# EAGLE library part 74LVC8T245PW (library KVB-ICs)
Voltage Level Translator Bidirectiona 1 Circuit 8 Channel 420Mbps 24-TSSOP
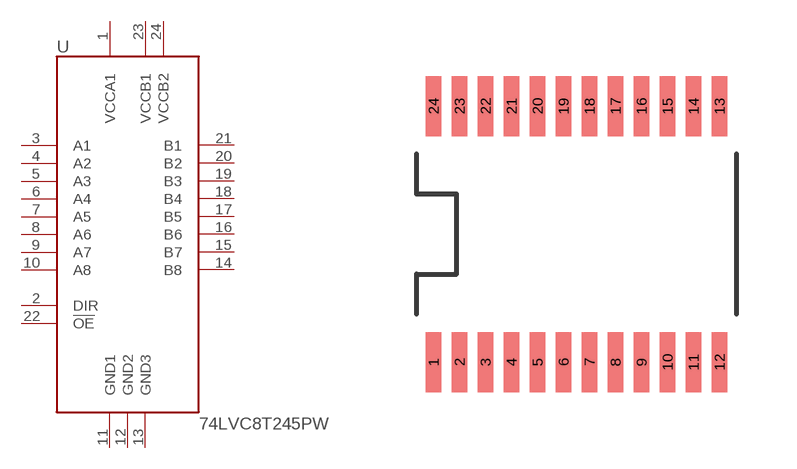
[diagram p2: symbol with the pads of 74LVC8T245PW; footprint 74LVC8T245PW]

Designator prefix U

## 74LVC8T245PW (MAN-PART_NUM: 74LVC8T245PW; MANUFACTURER: NXP Semiconductors)  [74LVC8T245PW]
1  VCCA1
2  DIR
3  A1
4  A2
5  A3
6  A4
7  A5
8  A6
9  A7
10  A8
11  GND1
12  GND2
13  GND3
14  B8
15  B7
16  B6
17  B5
18  B4
19  B3
20  B2
21  B1
22  !OE
23  VCCB1
24  VCCB2

## Footprint 74LVC8T245PW (pad centres in mm)
smd 0.38 x 1.5: 1 -3.575,-3.2; 2 -2.925,-3.2; 3 -2.275,-3.2; 4 -1.625,-3.2; 5 -0.975,-3.2; 6 -0.325,-3.2; 7 0.325,-3.2; 8 0.975,-3.2; 9 1.625,-3.2; 10 2.275,-3.2; 11 2.925,-3.2; 12 3.575,-3.2; 13 3.575,3.2; 14 2.925,3.2; 15 2.275,3.2; 16 1.625,3.2; 17 0.975,3.2; 18 0.325,3.2; 19 -0.325,3.2; 20 -0.975,3.2; 21 -1.625,3.2; 22 -2.275,3.2; 23 -2.925,3.2; 24 -3.575,3.2